# EAGLE library part LTC3426 (library open-ephys)
Boost converter
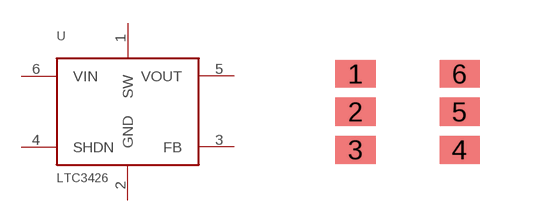
[diagram p0: symbol with the pads of SOT23-6; footprint SOT23-6]

Designator prefix -

## LTC3426  [SOT23-6]
1  SW
2  GND
3  FB
4  SHDN
5  VOUT
6  VIN

## Footprint SOT23-6 (pad centres in mm)
smd 1 x 0.7: 1 -1.3,0.95; 2 -1.3,0; 3 -1.3,-0.95; 4 1.3,-0.95; 5 1.3,0; 6 1.3,0.95